# Altium schematic symbol library PCA9535.SchLib: 1 symbol
Pins are listed as number, name and electrical type; pins without a type are passive.

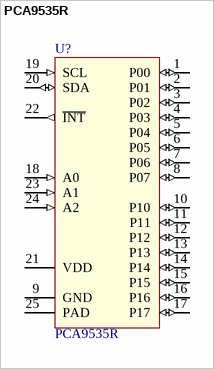
[diagram p0: symbol PCA9535R]

## PCA9535R
designator U?
value: PCA9535R
footprint QFN-24-4x4 (24-Pin Plastic Quad Flat No-Lead 0.5 mm Pitch, IPC Low Density)
pins: 1 P00 (io), 2 P01 (io), 3 P02 (io), 4 P03 (io), 5 P04 (io), 6 P05 (io), 7 P06 (io), 8 P07 (io), 9 GND (power), 10 P10 (io), 11 P11 (io), 12 P12 (io), 13 P13 (io), 14 P14 (io), 15 P15 (io), 16 P16 (io), 17 P17 (io), 18 A0 (in), 19 SCL (in), 20 SDA (io), 21 VDD (power), 22 ~{INT} (out), 23 A1 (in), 24 A2 (in), 25 PAD (power)